# Altium schematic symbol library LED_SMD_0805.SchLib: 1 symbol
Pins are listed as number, name and electrical type; pins without a type are passive.

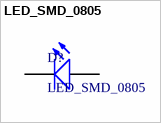
[diagram p0: symbol LED_SMD_0805]

## LED_SMD_0805
designator D?
footprint LED_SMD_0805
pins: 1 K, 2 A